# Altium footprint library SIP9-P-2.54A.PcbLib: 1 footprints
Each footprint in its own frame and in the unit in brackets; x right, y up, seen from the top. Pads: shape width x height; smd on the part's side, far side on the other; paste and mask are expansions set on the pad; w line width, h text height; cw(c..) or ccw(c..) is an arc to the next point about the centre after c.
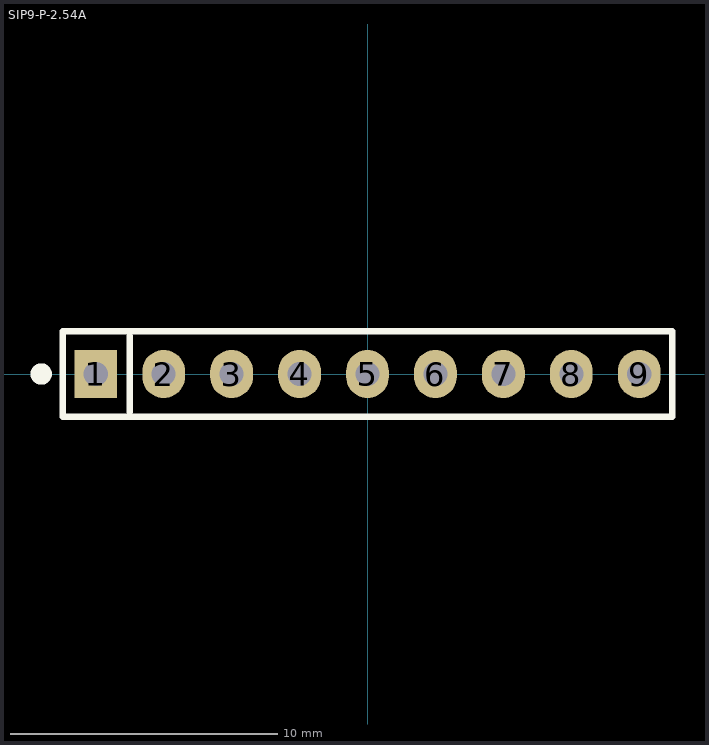
[diagram p0: the footprint, top view; thin cyan lines are the x and y axes]

## SIP9-P-2.54A [mm]
pads (9):
  rect 1.6x1.8 hole 0.9: 1(-10.16,0)
  oval 1.6x1.8 hole 0.9: 2(-7.62,0) 3(-5.08,0) 4(-2.54,0) 5(0,0) 6(2.54,0) 7(5.08,0) 8(7.62,0) 9(10.16,0)
Top Overlay:
  circle w0.4: c-12.2,0 r0.2
  lines w0.254: -8.89,-1.4 -8.89,1.4 ; -11.39,-1.6 11.39,-1.6 11.39,1.6 -11.39,1.6 -11.39,-1.6